# Altium schematic symbol library CS4344.SchLib: 1 symbol
Pins are listed as number, name and electrical type; pins without a type are passive.

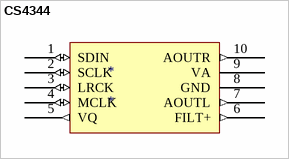
[diagram p0: symbol CS4344]

## CS4344
designator *
pins: 1 SDIN (io), 2 SCLK (io), 3 LRCK (io), 4 MCLK (io), 5 VQ (out), 6 FILT+ (out), 7 AOUTL (out), 8 GND (power), 9 VA (power), 10 AOUTR (out)